# EAGLE library part FEATHER-NRF52-BTLE (library Adafruit_Modules)
Adafruit Feather nRF52 Bluefruit LE and nRF52 BLE Pro (ARM Cortex M4F @ 64MHz) Bluefruit BTLE module
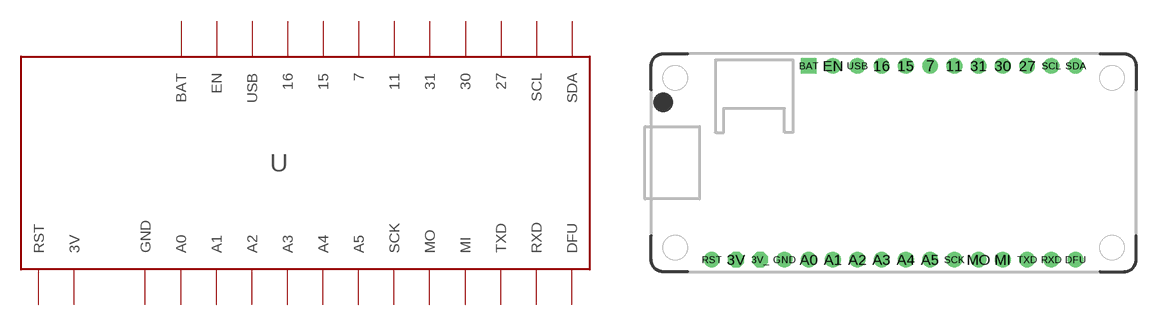
[diagram p20: symbol with the pads of FEATHER-NRF52; footprint FEATHER-NRF52]

Designator prefix -

## FEATHER-NRF52-BTLE (ADAFRUIT: 3406, 3574)  [FEATHER-NRF52]
3V  3V  out
3V_  3V  out
7  7
11  11
15  15
16  16
27  27
30  30
31  31
A0  A0
A1  A1
A2  A2
A3  A3
A4  A4
A5  A5
BAT  BAT  pwr
DFU  DFU
EN  EN  pas
GND  GND  pwr
MI  MI
MO  MO
RST  RST  pas
RXD  RXD
SCK  SCK
SCL  SCL
SDA  SDA
TXD  TXD
USB  USB  out

## Footprint FEATHER-NRF52 (pad centres in mm)
Adafruit Feather nRF52
drill 1.1 octagon: 3V -16.51,-10.16; 3V_ -13.97,-10.16
drill 1.1: 7 3.81,10.16; 11 6.35,10.16; 15 1.27,10.16; 16 -1.27,10.16; 27 13.97,10.16; 30 11.43,10.16; 31 8.89,10.16; A0 -8.89,-10.16; A1 -6.35,-10.16; A2 -3.81,-10.16; A3 -1.27,-10.16; A4 1.27,-10.16; A5 3.81,-10.16; DFU 19.05,-10.16; EN -6.35,10.16; GND -11.43,-10.16; MI 11.43,-10.16; MO 8.89,-10.16; RST -19.05,-10.16; RXD 16.51,-10.16; SCK 6.35,-10.16; SCL 16.51,10.16; SDA 19.05,10.16; TXD 13.97,-10.16; USB -3.81,10.16
drill 1.1 square: BAT -8.89,10.16